# Altium schematic symbol library EL-sense_RFID.SchLib: 1 symbol
Pins are listed as number, name and electrical type; pins without a type are passive.

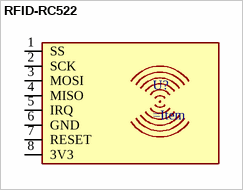
[diagram p0: symbol RFID-RC522]

## RFID-RC522
designator U?
pins: 1 SS, 2 SCK, 3 MOSI, 4 MISO, 5 IRQ, 6 GND (power), 7 RESET, 8 3V3 (power)